# Altium integrated library 8-8_控制板.IntLib: 23 symbols
Pins are listed as number, name and electrical type; pins without a type are passive.

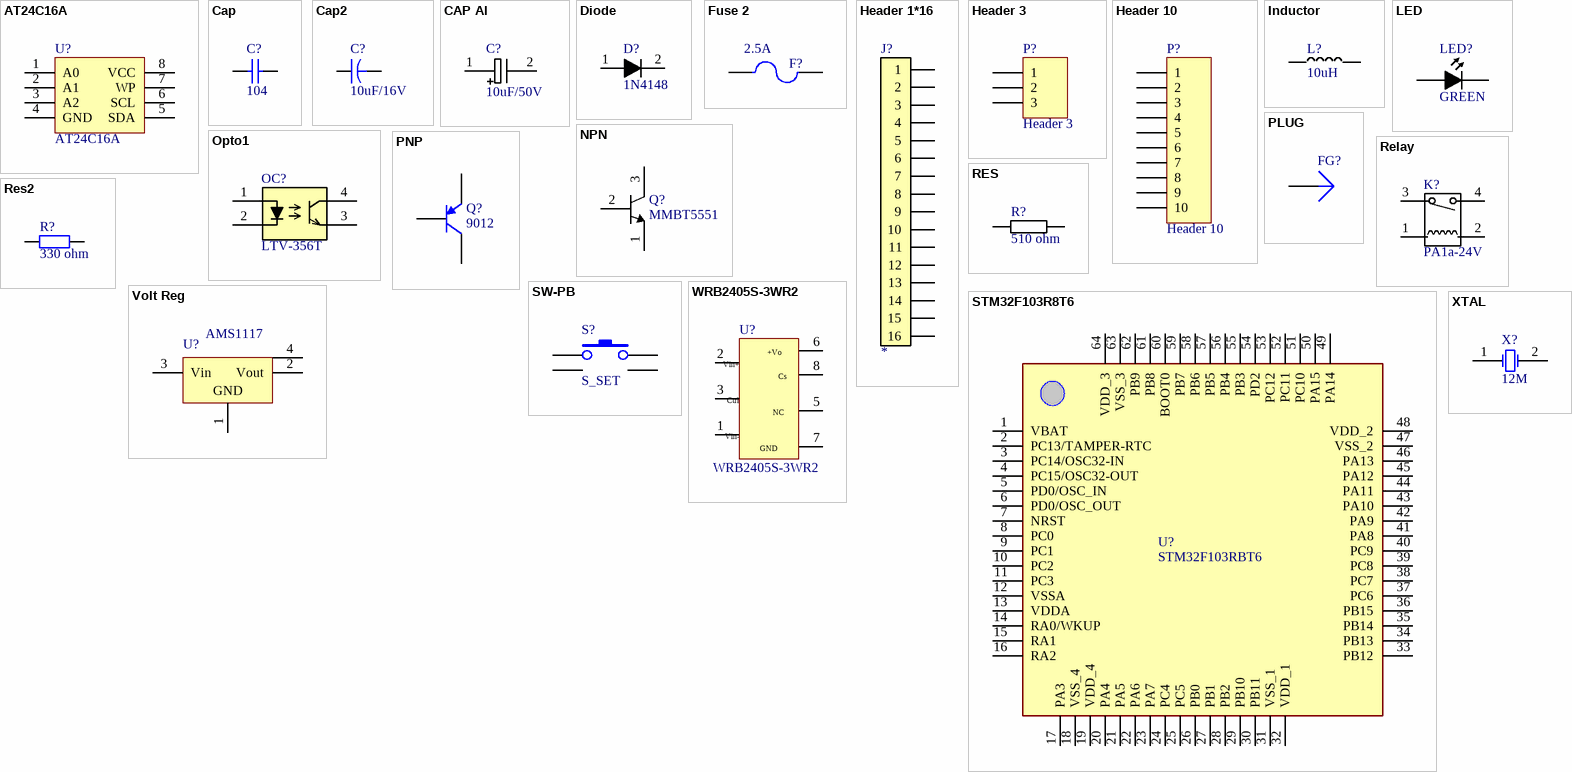
[diagram p0: symbols AT24C16A to XTAL]

## AT24C16A
designator U?
footprint SO-8
footprint SOIC
pins: 1 A0, 2 A1, 3 A2, 4 GND, 5 SDA, 6 SCL, 7 WP, 8 VCC

## Cap
designator C?  value 104  (hidden comment: Cap)
Capacitor; Manufacturer: Generic Components; Class: Passive; Published: 08/06/2000; Publisher: Altium Hobart Technology Centre; SubClass: Capacitor
simulation model CAP (Capacitor)
signal-integrity model Cap
footprint 2012C (SMD -size 0805 length80mil and width50mil)
footprint SM/C0805/2012/YUDO_REV1
footprint 0805C
footprint 0805 C
pins: 1, 2

## Cap2
designator C?  value 10uF/16V
Capacitor; Published: 23-Sep-2002; PackageReference: CAPR5-4X5; Publisher: Altium Limited
simulation model CAP (Capacitor)
signal-integrity model Cap
footprint 6032C (SMD size)
footprint C 3216
footprint 0805 C
pins: 1, 2

## CAP Al
designator C?  value 10uF/50V  (hidden comment: CAP Al)
footprint C 10uF/50V
pins: 1, 2

## Diode
designator D?, comment 1N4148
footprint D 1N4148(SOD80)
footprint D 1N4148(SOD-80/LL-34)
pins: 1 A, 2 K

## Fuse 2
designator F?, comment 2.5A
Fuse; Published: 8-Jun-2000; LatestRevisionDate: 17-Jul-2002; LatestRevisionNote: Re-released for DXP Platform.; PackageReference: PIN-W2/E2.8; Publisher: Altium Limited
footprint 1A/250V-1
simulation model FUSE (Spice Subcircuit)
pins: 1, 2

## Header 1*16
designator J?  (value not drawn)
Pin: *
footprint TIMECON5.1MMA
pins: 1, 2, 3, 4, 5, 6, 7, 8, 9, 10, 11, 12, 13, 14, 15, 16

## Header 3
designator P?
Header, 3-Pin; LatestRevisionDate: 17-Jul-2002; LatestRevisionNote: Re-released for DXP Platform.; Publisher: Altium Limited
footprint TIMECON3PIN5.1MMA
signal-integrity model Connector
pins: 1, 2, 3

## Header 10
designator P?
Header, 10-Pin; LatestRevisionDate: 17-Jul-2002; LatestRevisionNote: Re-released for DXP Platform.; Publisher: Altium Limited
footprint HDR1X10 (Connector; Header; 10 Position)
signal-integrity model Connector
footprint Header 2*5 SMD
pins: 1, 2, 3, 4, 5, 6, 7, 8, 9, 10

## Inductor
designator L?  value 10uH  (hidden comment: Inductor)
footprint L 2.2uH SMD
pins: 1, 2

## LED
designator LED?, comment GREEN
footprint LED SIP
footprint LED 3mm SIP
pins: 1 A, 2 K

## NPN
designator Q?, comment MMBT5551
footprint MMBT5551(SOT-23/TO-236)
pins: 1 E, 2 B, 3 C

## Opto1
designator OC?, comment LTV-356T
footprint SOP-4 LTV356T
pins: 1, 2, 3, 4

## PLUG
designator FG?
footprint 2.5
footprint VIA
pins: 1

## PNP
designator Q?, comment 9012
PNP Bipolar Transistor; Published: 8-Jun-2000; LatestRevisionDate: 29-May-2009; LatestRevisionNote: IPC-7351 Footprint Added.; PackageVersion: Aug-1999; PackageReference: SOT-23B; Publisher: Altium Limited; PackageDescription: 3-Pin SOT-23 Package 0.95 mm Pitch, 2.4 mm Lead Span
footprint 9012  SOT-23/TO-236)
footprint SOT-23B_L (SOT23, 3-Leads, Body 2.9x1.3mm, Pitch 0.95mm, Lead Span 2.4mm, IPC High Density)
footprint SOT-23B_M (SOT23, 3-Leads, Body 2.9x1.3mm, Pitch 0.95mm, Lead Span 2.4mm, IPC Low Density)
simulation model PNP
signal-integrity model PNP
pins: 1 B, 2 E, 3 C

## Relay
designator K?, comment PA1a-24V
footprint Relay PA1a-24V
pins: 1, 2, 3, 4

## RES
designator R?  value 510 ohm  (hidden comment: RES)
footprint 0805 R 1/8W
pins: 1, 2

## Res2
designator R?, comment 330 ohm
Resistor; Value: 103; Published: 8-Jun-2000; LatestRevisionDate: 17-Jul-2002; LatestRevisionNote: Re-released for DXP Platform.; PackageReference: AXIAL-0.4; Publisher: Altium Limited
simulation model RESISTOR (Resistor)
signal-integrity model Res
footprint R0805B
footprint 0805 D
pins: 1, 2

## STM32F103R8T6
designator U?, comment STM32F103RBT6
footprint LQFP64-L
footprint STM32F103RBT6
pins: 1 VBAT, 2 PC13/TAMPER-RTC, 3 PC14/OSC32-IN, 4 PC15/OSC32-OUT, 5 PD0/OSC_IN, 6 PD0/OSC_OUT, 7 NRST, 8 PC0, 9 PC1, 10 PC2, 11 PC3, 12 VSSA, 13 VDDA, 14 RA0/WKUP, 15 RA1, 16 RA2, 17 PA3, 18 VSS_4, 19 VDD_4, 20 PA4, 21 PA5, 22 PA6, 23 PA7, 24 PC4, 25 PC5, 26 PB0, 27 PB1, 28 PB2, 29 PB10, 30 PB11, 31 VSS_1, 32 VDD_1, 33 PB12, 34 PB13, 35 PB14, 36 PB15, 37 PC6, 38 PC7, 39 PC8, 40 PC9, 41 PA8, 42 PA9, 43 PA10, 44 PA11, 45 PA12, 46 PA13, 47 VSS_2, 48 VDD_2, 49 PA14, 50 PA15, 51 PC10, 52 PC11, 53 PC12, 54 PD2, 55 PB3, 56 PB4, 57 PB5, 58 PB6, 59 PB7, 60 BOOT0, 61 PB8, 62 PB9, 63 VSS_3, 64 VDD_3

## SW-PB
designator S?, comment S_SET
footprint SMD 6*6*4.5
footprint SMD 6*6*4.5
footprint 12*12*4.3
footprint Switch 6*6*6 SMD
footprint 6*6*6
footprint SW12*12*4
pins: 1, 2, 3, 4

## Volt Reg
designator U?, comment AMS1117
Voltage Regulator; Published: 24-Mar-1999; LatestRevisionDate: 29-May-2009; LatestRevisionNote: IPC-7351 Footprint Added.; PackageReference: D2PAK; Publisher: Altium Limited; PackageDescription: 3-Pin Transistor Outline Package 2.54 mm Pitch, 15.1 mm Lead Span
footprint ASM1117-5 (SOT223, 4-Leads, Body 6.7x7.3mm (max), Pitch 2.30mm, IPC Medium Density)
footprint SOT223_L (SOT223, 4-Leads, Body 6.5x3.5mm, Pitch 2.3mm, Lead Span 7mm, IPC High Density)
pins: 1 GND, 2 Vout, 3 Vin, 4 Vout

## WRB2405S-3WR2
designator U?
footprint WRB_S-3WR2
pins: 1, 2, 3, 5, 6, 7, 8
text: +Vo; Vin+; Cs; Ctrl; NC; Vin-; GND

## XTAL
designator X?, comment 12M
Crystal Oscillator; Manufacturer: Generic Components; Published: 08/06/2000; Publisher: Altium Hobart Technology Centre; Class: Oscillator; SubClass: Crystal Oscillator
simulation model XTAL (Spice Subcircuit)
footprint XT
footprint XTAL SMD
footprint XTAL DIP
pins: 1 OSC1, 2 OSC2